# EAGLE library part LTC2309 (library brett)
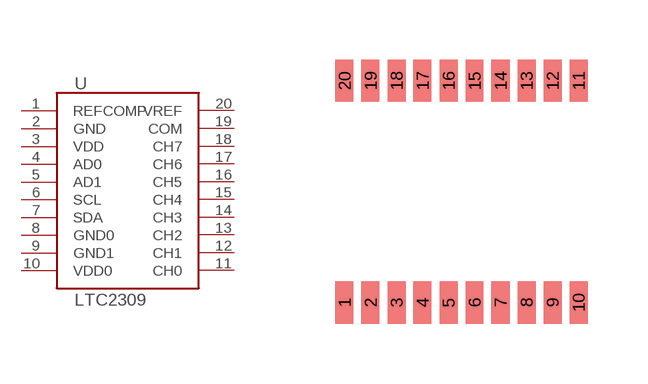
[diagram p7: symbol with the pads of TSSOP-20_(LTC2309); footprint TSSOP-20_(LTC2309)]

Designator prefix -

## LTC2309  [TSSOP-20_(LTC2309)]
1  REFCOMP
2  GND
3  VDD
4  AD0
5  AD1
6  SCL
7  SDA
8  GND0
9  GND1
10  VDD0
11  CH0
12  CH1
13  CH2
14  CH3
15  CH4
16  CH5
17  CH6
18  CH7
19  COM
20  VREF

## Footprint TSSOP-20_(LTC2309) (pad centres in mm)
smd 0.45 x 1.05: 1 -3.25,-3.25; 2 -2.6,-3.25; 3 -1.95,-3.25; 4 -1.3,-3.25; 5 -0.65,-3.25; 6 0,-3.25; 7 0.65,-3.25; 8 1.3,-3.25; 9 1.95,-3.25; 10 2.6,-3.25; 11 2.6,2.3; 12 1.95,2.3; 13 1.3,2.3; 14 0.65,2.3; 15 0,2.3; 16 -0.65,2.3; 17 -1.3,2.3; 18 -1.95,2.3; 19 -2.6,2.3; 20 -3.25,2.3